# Altium footprint library 3mm_trim.PcbLib: 1 footprints
Each footprint in its own frame and in the unit in brackets; x right, y up, seen from the top. Pads: shape width x height; smd on the part's side, far side on the other; paste and mask are expansions set on the pad; w line width, h text height; cw(c..) or ccw(c..) is an arc to the next point about the centre after c.
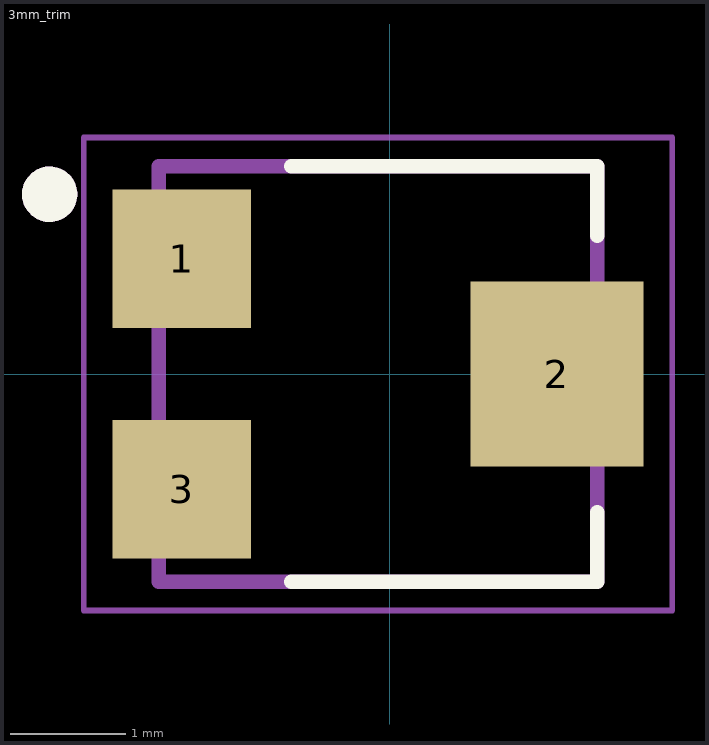
[diagram p0: the footprint, top view; thin cyan lines are the x and y axes]

## 3mm_trim [mm]
pads (3):
  rect 1.2x1.2 smd: 1(-1.8,1) 3(-1.8,-1)
  rect 1.5x1.6 smd: 2(1.45,0)
Top Overlay:
  circle w0.24: c-2.946,1.558 r0.12
  lines w0.127: -0.85,-1.8 1.8,-1.8 1.8,-1.2 ; -0.85,1.8 1.8,1.8 1.8,1.2
Mechanical 13:
  circle w0.24: c-2.946,1.558 r0.12
  lines w0.127: -2,-1.8 -2,1.8 1.8,1.8 1.8,-1.8 -2,-1.8
Mechanical 15:
  lines w0.05: -2.65,-2.05 -2.65,2.05 2.45,2.05 2.45,-2.05 -2.65,-2.05
3D body "step_temp.STEP": height 1.19, standoff -0.01, extent -1.9,-1.5 1.9,1.5